# Altium schematic symbol library VEMD5080X01.SchLib: 1 symbol
Pins are listed as number, name and electrical type; pins without a type are passive.

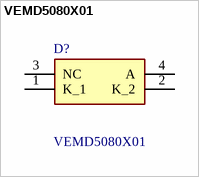
[diagram p0: symbol VEMD5080X01]

## VEMD5080X01
designator D?
PIN Photodiode 45uA 350-1070nm QFN; Manufacturer_Name: Vishay; Geometry.Height: 0.9mm; Mouser Part Number: 78-VEMD5080X01; Mouser Price/Stock: https://www.mouser.co.uk/ProductDetail/Vishay-Semiconductors/VEMD5080X01?qs=AQlKX63v8RsWDlTFdMJfOQ%3D%3D; Manufacturer_Part_Number: VEMD5080X01; Datasheet Link: *
footprint VEMD5080X01
pins: 1 K_1, 2 K_2, 3 NC, 4 A